# Altium footprint library 744314330.PcbLib: 1 footprints
Each footprint in its own frame and in the unit in brackets; x right, y up, seen from the top. Pads: shape width x height; smd on the part's side, far side on the other; paste and mask are expansions set on the pad; w line width, h text height; cw(c..) or ccw(c..) is an arc to the next point about the centre after c.
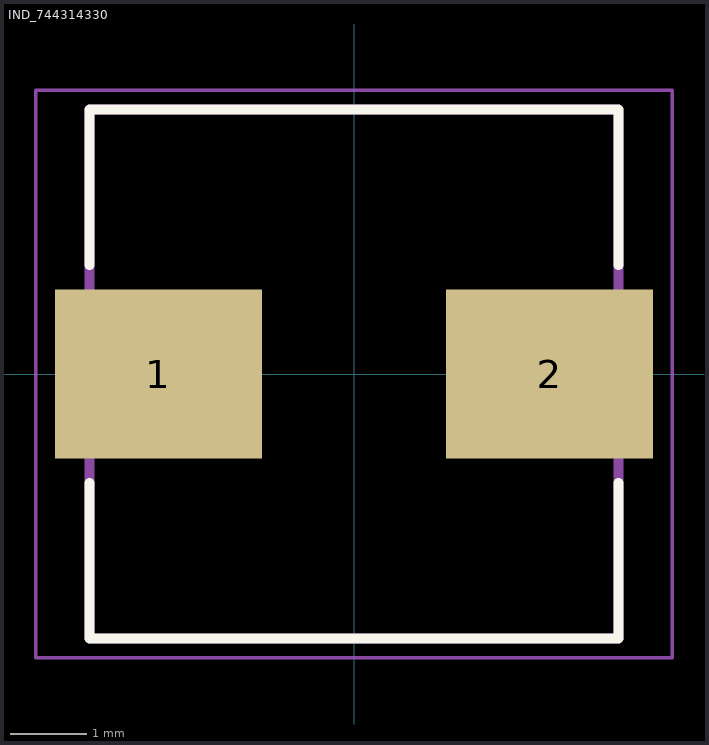
[diagram p0: the footprint, top view; thin cyan lines are the x and y axes]

## IND_744314330 [mm]
pads (2):
  rect 2.7x2.2 smd: 1(-2.55,0) 2(2.55,0)
Top Overlay:
  lines w0.127: -3.45,-1.42 -3.45,-3.45 3.45,-3.45 3.45,-1.42 ; -3.45,1.42 -3.45,3.45 3.45,3.45 3.45,1.42
Mechanical 13:
  lines w0.127: -3.45,-3.45 3.45,-3.45 3.45,3.45 -3.45,3.45 -3.45,-3.45
Mechanical 15:
  lines w0.05: -4.15,-3.7 4.15,-3.7 4.15,3.7 -4.15,3.7 -4.15,-3.7
3D body "step_temp.STEP": height 4.9, standoff -0.1, extent -3.45,-3.5 3.45,3.5